# Altium footprint library PcbLibICPOWER.PcbLib: 19 footprints (part 1 of 2)
Each footprint in its own frame and in the unit in brackets; x right, y up, seen from the top. Pads: shape width x height; smd on the part's side, far side on the other; paste and mask are expansions set on the pad; w line width, h text height; cw(c..) or ccw(c..) is an arc to the next point about the centre after c.
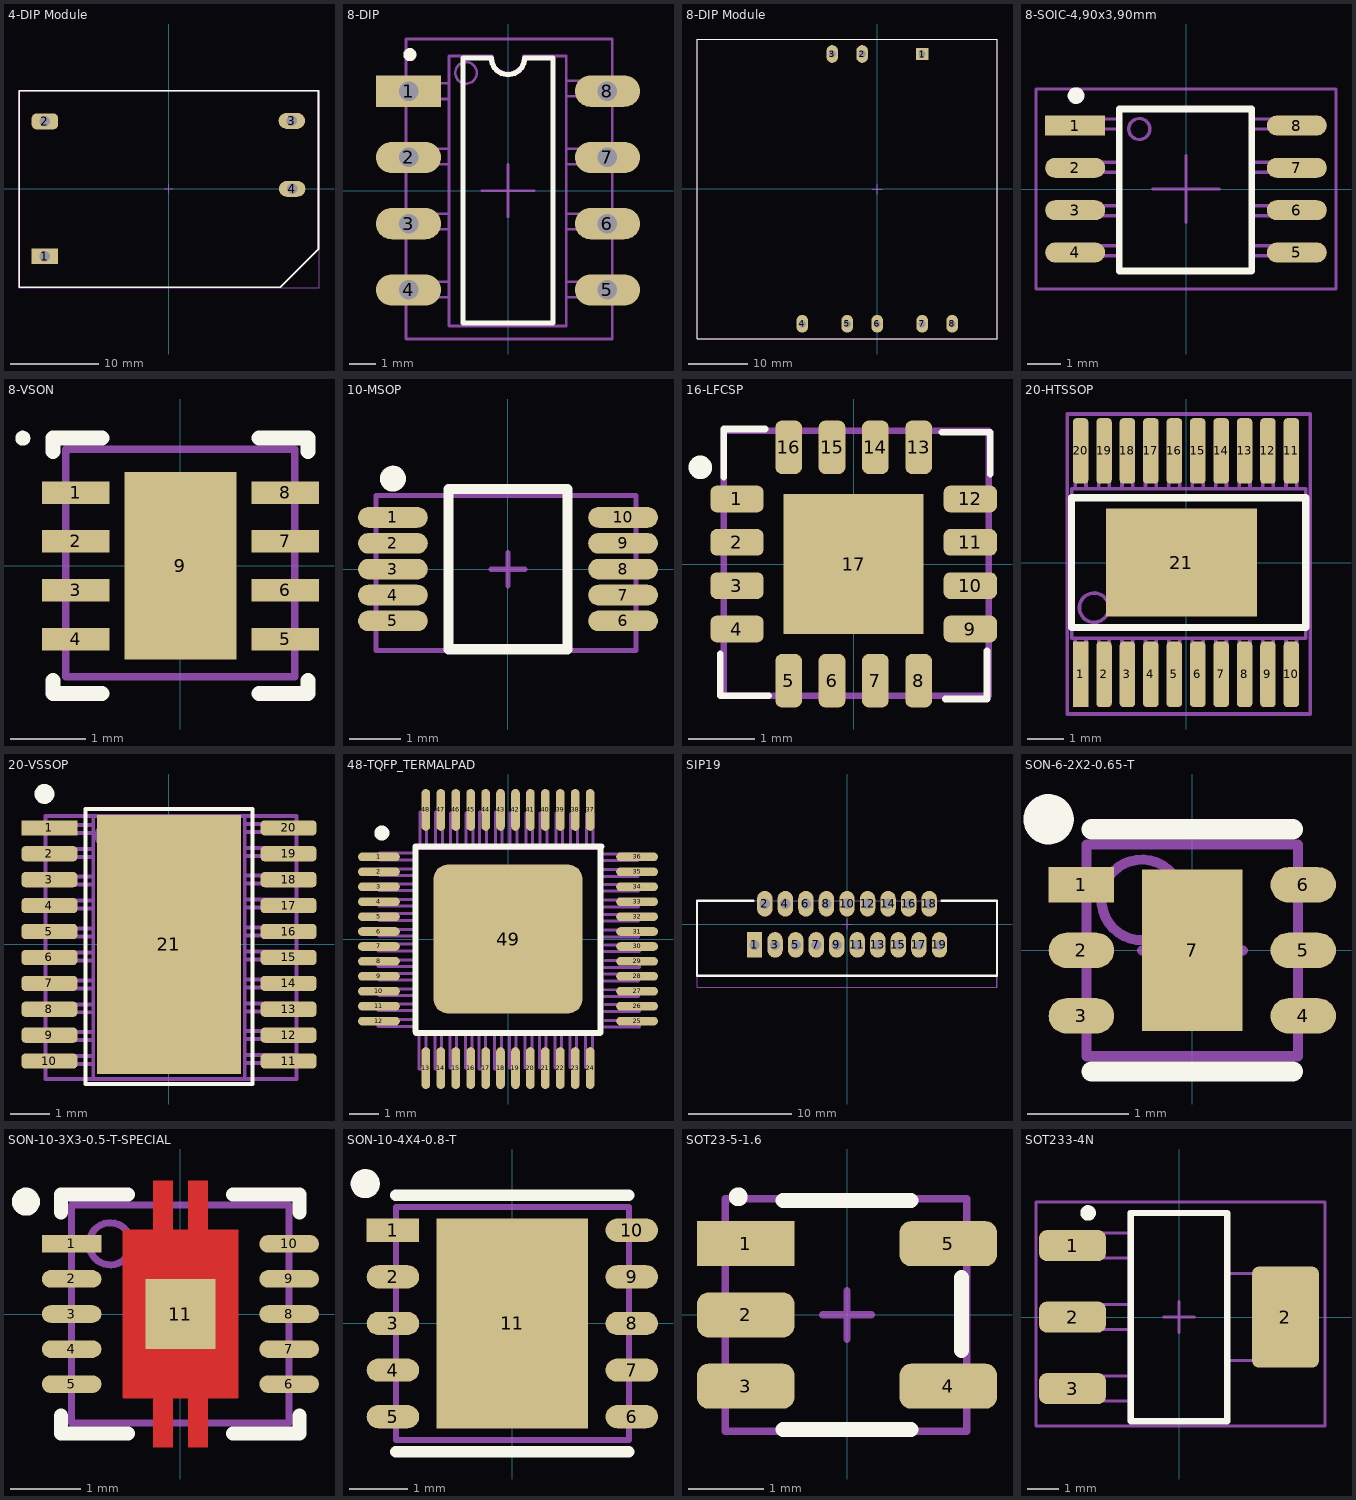
[diagram p0: the footprints below, top view; thin cyan lines are the x and y axes]

## 4-DIP Module [mm] "1.33\" L x 0.87\" W x 0.75\" H (33.7mm x 22.2mm x 19.0mm)"
height 19
pads (4):
  rect 3x1.8 hole 1.2: 1(-13.97,-7.65)
  rrect60% 3x1.8 hole 1.2: 2(-13.97,7.59)
  oval 3x1.8 hole 1.2: 3(13.93,7.65) 4(13.97,-0.03)
Top Overlay:
  lines w0.2: -16.87,-11.15 12.63,-11.15 16.93,-6.85 16.93,11.05 -16.87,11.05 -16.87,-11.15
TopAssy:
  circle w0.1: c13.97,-0.03 r0.5
  circle w0.1: c13.93,7.65 r0.5
  circle w0.1: c-13.97,7.59 r0.5
  circle w0.1: c-13.97,-7.65 r0.5
  lines w0.1: -16.87,-11.15 -16.87,11.05 16.93,11.05 16.93,-6.85 12.63,-11.15 -16.87,-11.15
Inside:
  lines w0.1: -0.5,0 0.5,0 ; 0,-0.5 0,0.5 ; -16.9,-11.2 -16.9,11.1 17,11.1 17,-11.2 -16.9,-11.2
3D body "User Library-RAC01-xxSGB.STEP": height 19.6, standoff -3.2, extent -16.82,-11.13 16.88,11.07

## 8-DIP [mm]
pads (8):
  rect 2.5x1.2 hole 0.75: 1(-3.81,3.81)
  oval 2.5x1.2 hole 0.75: 2(-3.81,1.27) 3(-3.81,-1.27) 4(-3.81,-3.81) 5(3.81,-3.81) 6(3.81,-1.27) 7(3.81,1.27) 8(3.81,3.81)
Top Overlay:
  circle w0.25: c-3.76,5.21 r0.125
  lines w0.2: -1.725,-5.08 1.725,-5.08 1.725,5.08 0.635,5.08 cw(c0,5.08) -0.635,5.08 -1.725,5.08 -1.725,-5.08
TopAssy:
  circle w0.1: c-1.61,4.51 r0.412
  lines w0.1: -2.26,-4.09 -4.71,-4.09 -4.71,-3.49 -2.26,-3.49 ; -2.26,-1.49 -4.71,-1.49 -4.71,-0.89 -2.26,-0.89 ; -2.26,1.01 -4.71,1.01 -4.71,1.61 -2.26,1.61 ; -2.26,3.51 -4.71,3.51 -4.71,4.11 -2.26,4.11 ; -2.135,5.16 -2.26,5.16 ; 2.24,-4.09 4.69,-4.09 4.69,-3.49 2.24,-3.49 ; 2.24,-1.49 4.69,-1.49 4.69,-0.89 2.24,-0.89 ; 2.24,1.01 4.69,1.01 4.69,1.61 2.24,1.61 ; 2.24,3.61 4.69,3.61 4.69,4.21 2.24,4.21 ; -2.26,5.16 -2.26,-5.19 2.24,-5.19 2.24,5.16 0.59,5.16 cw(c-0.01,5.11) -0.61,5.16 -2.26,5.16
Inside:
  lines w0.1: -1,0 1,0 ; 0,-1 0,1 ; -3.91,-5.69 -3.91,5.81 3.99,5.81 3.99,-5.69 -3.91,-5.69
3D body "CircuitWorks-DIP8.step": height 4.69, standoff -2.17, extent -3.885,-5.705 3.989,5.725

## 8-DIP Module [mm] "2.00\" L x 2.00\" W x 0.43\" H (50.8mm x 50.8mm x 11.0mm)-SKA60Series"
pads (8):
  rect 2.1x2.1 hole 1.2: 1(7.62,22.85)
  oval 2x3 hole 1.2: 2(-2.54,22.85) 3(-7.62,22.85) 4(-12.7,-22.85) 5(-5.08,-22.85) 6(0,-22.85) 7(7.62,-22.85) 8(12.7,-22.85)
Top Overlay:
  lines w0.1: -30.53,-25.35 20.295,-25.35 20.295,25.35 -30.48,25.35 -30.53,25.35 -30.53,-25.35
TopAssy:
  lines w0.1: -30.505,-25.375 20.295,-25.375 20.295,25.325 -30.505,25.325 -30.505,-25.375
Inside:
  lines w0.1: -0.875,-0.025 0.875,-0.025 ; 0,-0.875 0,0.75
3D body "SKA60 .STEP": height 12, standoff -4.8, extent -30.48,-25.4 20.32,25.4

## 8-SOIC-4,90x3,90mm [mm] "SOIC, 8-Leads, Body 4,90x3,90mm, Pitch 1,27mm, IPC Medium Density"
height 2.65
pads (8):
  rect 1.8x0.6 smd: 1(-3.325,1.905)
  oval 1.8x0.6 smd: 2(-3.325,0.635) 3(-3.325,-0.635) 4(-3.325,-1.905) 5(3.325,-1.905) 6(3.325,-0.635) 7(3.325,0.635) 8(3.325,1.905)
Top Overlay:
  circle w0.25: c-3.3,2.8 r0.125
  lines w0.2: -2,-2.45 -2,2.4 1.975,2.4 1.975,-2.45 1.965,-2.46 -2,-2.46
TopAssy:
  circle w0.1: c-1.4,1.8 r0.316
  lines w0.1: -2,-2 -3,-2 -3,-1.7 -2,-1.7 ; -2,-0.8 -3,-0.8 -3,-0.5 -2,-0.5 ; -2,0.5 -3,0.5 -3,0.8 -2,0.8 ; -2,1.8 -3,1.8 -3,2.1 -2,2.1 ; 2,-2 3,-2 3,-1.7 2,-1.7 ; 2,-0.8 3,-0.8 3,-0.5 2,-0.5 ; 2,0.5 3,0.5 3,0.8 2,0.8 ; 2,1.8 3,1.8 3,2.1 2,2.1 ; -2,-2.4 -1.9,-2.5 2,-2.5 2,2.4 -2,2.4 -2,-2.4
Inside:
  lines w0.1: -1,0 1,0 ; 0,-1 0,1 ; -4.5,-3 4.5,-3 4.5,3 -4.5,3 -4.5,-3
3D body "User Library-SOIC-8-1.step": height 1.75, standoff 0, extent -3,-2.45 3,2.45

## 8-VSON [mm] "3.1mmx3.1mmx1mm"
height 1
pads (9):
  rect 0.9x0.3 smd mask+0.05: 1(-1.395,0.975) 2(-1.395,0.325) 3(-1.395,-0.325) 4(-1.395,-0.975) 5(1.395,-0.975) 6(1.395,-0.325) 7(1.395,0.325) 8(1.395,0.975)
  rect 1.49x2.5 smd mask+0.05: 9(0,0)
Top Overlay:
  circle w0.1: c-2.1,1.7 r0.05
  lines w0.2: -1.7,-1.525 -1.7,-1.7 -1.045,-1.7 ; -1.7,1.525 -1.7,1.7 -1.045,1.7 ; 1.045,-1.7 1.7,-1.7 1.7,-1.525 ; 1.045,1.7 1.7,1.7 1.7,1.525
Top Solder:
  rectangle: -0.8,-1.225 0.8,-1.2
TopAssy:
  lines w0.1: -1.525,-1.475 -1.525,1.55 1.525,1.55 1.525,-1.475 -1.525,-1.475
Inside:
  lines w0.1: -0.325,0 0.325,0 ; 0,-0.325 0,0.325
3D body "User Library-DRB(S-PVSON-N8).STEP": height 1.05, standoff 0, extent -1.52,-1.5 1.52,1.54

## 10-MSOP [mm] "3.1mmx3.1mmx1.1mm"
height 1.1
pads (10):
  oval 1.35x0.4 smd mask+0.05: 1(-2.225,1) 2(-2.225,0.5) 3(-2.225,0) 4(-2.225,-0.5) 5(-2.225,-1) 6(2.225,-1) 7(2.225,-0.5) 8(2.225,0) 9(2.225,0.5) 10(2.225,1)
Top Overlay:
  circle w0.25: c-2.225,1.75 r0.125
  lines w0.2: -1.15,-1.55 1.15,-1.55 1.15,1.55 -1.15,1.55 -1.15,-1.55
TopAssy:
  lines w0.1: -2.55,-1.575 2.475,-1.575 2.475,1.425 -2.55,1.425 -2.55,-1.575
Inside:
  lines w0.1: -0.325,0 0.325,0 ; 0,-0.325 0,0.325
3D body "User Library-MSOP-10-1.step": height 1.05, standoff 0, extent -2.554,-1.575 2.473,1.425

## 16-LFCSP [mm] "4mmx4mmx0.8mm"
height 0.8
pads (17):
  rrect50% 0.8x0.4 smd mask+0.05: 1(-1.75,0.975) 2(-1.75,0.325) 3(-1.75,-0.325) 4(-1.75,-0.975) 9(1.75,-0.975) 10(1.75,-0.325) 11(1.75,0.325) 12(1.75,0.975)
  rrect50% 0.4x0.8 smd mask+0.05: 5(-0.975,-1.75) 6(-0.325,-1.75) 7(0.325,-1.75) 8(0.975,-1.75) 13(0.975,1.75) 14(0.325,1.75) 15(-0.325,1.75) 16(-0.975,1.75)
  rect 2.1x2.1 smd: 17(0,0)
Top Overlay:
  circle w0.254: c-2.3,1.45 r0.05
  lines w0.1: -2,-1.35 -2,-1.975 -1.275,-1.975 ; -1.95,1.3 -1.95,2.025 -1.325,2.025 ; 1.325,1.975 2.05,1.975 2.05,1.35 ; 1.375,-2.025 2,-2.025 2,-1.3
TopAssy:
  lines w0.1: -1.95,-1.975 2.025,-1.975 2.025,2 -1.95,2 -1.95,-1.975
Inside:
  lines w0.1: -0.325,0 0.325,0 ; 0,-0.325 0,0.325
3D body "User Library-LFCSP-16-1.STEP": height 1, standoff 0, extent -2,-1.975 2,2.025

## 20-HTSSOP [mm] "20-PowerTSSOP (0.173\", 4.40mm Width)"
pads (21):
  rect 0.43x1.82 smd: 1(-2.925,-3.1)
  rrect50% 0.43x1.82 smd: 2(-2.275,-3.1) 3(-1.625,-3.1) 4(-0.975,-3.1) 5(-0.325,-3.1) 6(0.325,-3.1) 7(0.975,-3.1) 8(1.625,-3.1) 9(2.275,-3.1) 10(2.925,-3.1) 11(2.925,3.1) 12(2.275,3.1) 13(1.625,3.1) 14(0.975,3.1) 15(0.325,3.1) 16(-0.325,3.1) 17(-0.975,3.1) 18(-1.625,3.1) 19(-2.275,3.1) 20(-2.925,3.1)
  rect 4.2x3 smd: 21(-0.125,0)
Top Overlay:
  lines w0.2: -3.175,-1.8 -3.175,1.8 3.325,1.8 3.325,-1.8 -3.175,-1.8
TopAssy:
  circle w0.1: c-2.55,-1.25 r0.407
  lines w0.1: -3.075,-2.15 -3.075,-3.5 -2.775,-3.5 -2.775,-2.15 ; -3.075,2.075 -3.075,3.425 -2.775,3.425 -2.775,2.075 ; -2.425,-2.125 -2.425,-3.475 -2.125,-3.475 -2.125,-2.125 ; -2.425,2.05 -2.425,3.4 -2.125,3.4 -2.125,2.05 ; -1.775,-2.125 -1.775,-3.475 -1.475,-3.475 -1.475,-2.125 ; -1.775,2.05 -1.775,3.4 -1.475,3.4 -1.475,2.05 ; -1.125,-2.125 -1.125,-3.475 -0.825,-3.475 -0.825,-2.125 ; -1.125,2.05 -1.125,3.4 -0.825,3.4 -0.825,2.05 ; -0.475,-2.15 -0.475,-3.5 -0.175,-3.5 -0.175,-2.15 ; -0.475,2.075 -0.475,3.425 -0.175,3.425 -0.175,2.075 ; 0.175,-2.125 0.175,-3.475 0.475,-3.475 0.475,-2.125 ; 0.175,2.05 0.175,3.4 0.475,3.4 0.475,2.05 ; 0.825,-2.125 0.825,-3.475 1.125,-3.475 1.125,-2.125 ; 0.825,2.05 0.825,3.4 1.125,3.4 1.125,2.05 ; 1.475,-2.125 1.475,-3.475 1.775,-3.475 1.775,-2.125 ; 1.475,2.05 1.475,3.4 1.775,3.4 1.775,2.05 ; 2.125,-2.125 2.125,-3.475 2.425,-3.475 2.425,-2.125 ; 2.125,2.05 2.125,3.4 2.425,3.4 2.425,2.05 ; 2.775,-2.125 2.775,-3.475 3.075,-3.475 3.075,-2.125 ; 2.775,2.05 2.775,3.4 3.075,3.4 3.075,2.05 ; -3.175,-2.1 3.325,-2.1 3.325,2.05 -3.175,2.05 -3.175,-2.1
Inside:
  lines w0.1: -0.5,0 0.5,0 ; 0,-0.5 0,0.5 ; -3.3,-4.2 3.45,-4.2 3.45,4.125 -3.3,4.125 -3.3,-4.2
3D body "User Library-HTSSOP20.step": height 0.95, standoff -0.06, extent -3.25,-3.2 3.25,3.214

## 20-VSSOP [mm] "20-VSSOP (0.173\", 4.40mm Width) Exposed Pad"
pads (21):
  rect 1.4x0.38 smd: 1(-3,2.925)
  rrect50% 1.4x0.38 smd: 2(-3,2.275) 3(-3,1.625) 4(-3,0.975) 5(-3,0.325) 6(-3,-0.325) 7(-3,-0.975) 8(-3,-1.625) 9(-3,-2.275) 10(-3,-2.925) 11(3,-2.925) 12(3,-2.275) 13(3,-1.625) 14(3,-0.975) 15(3,-0.325) 16(3,0.325) 17(3,0.975) 18(3,1.625) 19(3,2.275) 20(3,2.925)
  rect 3.6x6.5 smd: 21(0,0)
Top Overlay:
  circle w0.25: c-3.125,3.775 r0.125
  lines w0.1: -2.1,-3.5 2.1,-3.5 2.1,3.4 -2.1,3.4 -2.1,-3.5
TopAssy:
  circle w0.1: c-1.5,2.725 r0.316
  lines w0.1: -1.9,-3 -3.2,-3 -3.2,-2.8 -1.9,-2.8 ; -1.9,-2.4 -3.2,-2.4 -3.2,-2.2 -1.9,-2.2 ; -1.9,-1.7 -3.2,-1.7 -3.2,-1.5 -1.9,-1.5 ; -1.9,-1.1 -3.2,-1.1 -3.2,-0.9 -1.9,-0.9 ; -1.9,-0.4 -3.2,-0.4 -3.2,-0.2 -1.9,-0.2 ; -1.9,0.2 -3.2,0.2 -3.2,0.4 -1.9,0.4 ; -1.9,0.9 -3.2,0.9 -3.2,1.1 -1.9,1.1 ; -1.9,1.5 -3.2,1.5 -3.2,1.7 -1.9,1.7 ; -1.9,2.2 -3.2,2.2 -3.2,2.4 -1.9,2.4 ; -1.9,2.8 -3.2,2.8 -3.2,3 -1.9,3 ; 1.9,-2.975 3.2,-2.975 3.2,-2.775 1.9,-2.775 ; 1.9,-2.375 3.2,-2.375 3.2,-2.175 1.9,-2.175 ; 1.9,-1.675 3.2,-1.675 3.2,-1.475 1.9,-1.475 ; 1.9,-1.075 3.2,-1.075 3.2,-0.875 1.9,-0.875 ; 1.9,-0.375 3.2,-0.375 3.2,-0.175 1.9,-0.175 ; 1.9,0.225 3.2,0.225 3.2,0.425 1.9,0.425 ; 1.9,0.925 3.2,0.925 3.2,1.125 1.9,1.125 ; 1.9,1.525 3.2,1.525 3.2,1.725 1.9,1.725 ; 1.9,2.225 3.2,2.225 3.2,2.425 1.9,2.425 ; 1.9,2.825 3.2,2.825 3.2,3.025 1.9,3.025 ; -1.9,-3.375 -1.9,3.225 1.9,3.225 1.9,-3.375 -1.9,-3.375
Inside:
  lines w0.1: -1,0 1,0 ; 0,-1 0,1 ; -3.1,-3.375 -3.1,3.225 3.2,3.225 3.2,-3.375 -3.1,-3.375
3D body "User Library-TSSOP20_TP.STEP": height 1.1, standoff -0.09, extent -3.1,-3.35 3.18,3.15

## 48-TQFP_TERMALPAD [mm]
height 1.2
pads (49):
  oval 1.4x0.29 smd: 1(-4.325,2.75) 2(-4.325,2.25) 3(-4.325,1.75) 4(-4.325,1.25) 5(-4.325,0.75) 6(-4.325,0.25) 7(-4.325,-0.25) 8(-4.325,-0.75) 9(-4.325,-1.25) 10(-4.325,-1.75) 11(-4.325,-2.25) 12(-4.325,-2.75) 25(4.325,-2.75) 26(4.325,-2.25) 27(4.325,-1.75) 28(4.325,-1.25) 29(4.325,-0.75) 30(4.325,-0.25) 31(4.325,0.25) 32(4.325,0.75) 33(4.325,1.25) 34(4.325,1.75) 35(4.325,2.25) 36(4.325,2.75)
  oval 0.29x1.4 smd: 13(-2.75,-4.325) 14(-2.25,-4.325) 15(-1.75,-4.325) 16(-1.25,-4.325) 17(-0.75,-4.325) 18(-0.25,-4.325) 19(0.25,-4.325) 20(0.75,-4.325) 21(1.25,-4.325) 22(1.75,-4.325) 23(2.25,-4.325) 24(2.75,-4.325) 37(2.75,4.325) 38(2.25,4.325) 39(1.75,4.325) 40(1.25,4.325) 41(0.75,4.325) 42(0.25,4.325) 43(-0.25,4.325) 44(-0.75,4.325) 45(-1.25,4.325) 46(-1.75,4.325) 47(-2.25,4.325) 48(-2.75,4.325)
  rrect20% 5x5 smd: 49(0,0)
Top Overlay:
  circle w0.25: c-4.225,3.55 r0.125
  lines w0.2: -3.1,-3.1 -3.1,3.1 ; -3.075,-3.15 3.075,-3.15 3.1,-3.125 3.1,3.1 ; -3.075,3.1 3.125,3.1
TopAssy:
  lines w0.1: -3.2,-2.7 -4.35,-2.7 -4.35,-2.925 -3.175,-2.925 ; -3.2,-2.175 -4.35,-2.175 -4.35,-2.4 -3.175,-2.4 ; -3.2,-0.7 -4.35,-0.7 -4.35,-0.925 -3.175,-0.925 ; -3.2,-0.175 -4.35,-0.175 -4.35,-0.4 -3.175,-0.4 ; -3.175,-1.675 -4.325,-1.675 -4.325,-1.9 -3.15,-1.9 ; -3.175,-1.15 -4.325,-1.15 -4.325,-1.375 -3.15,-1.375 ; -3.175,0.325 -4.325,0.325 -4.325,0.1 -3.15,0.1 ; -3.175,0.85 -4.325,0.85 -4.325,0.625 -3.15,0.625 ; -3.175,1.325 -4.325,1.325 -4.325,1.1 -3.15,1.1 ; -3.175,1.85 -4.325,1.85 -4.325,1.625 -3.15,1.625 ; -3.15,2.35 -4.3,2.35 -4.3,2.125 -3.125,2.125 ; -3.15,2.875 -4.3,2.875 -4.3,2.65 -3.125,2.65 ; -2.975,-3.175 -2.975,-4.35 -2.75,-4.35 -2.75,-3.2 ; -2.95,3.075 -2.95,4.25 -2.725,4.25 -2.725,3.1 ; -2.45,-3.175 -2.45,-4.35 -2.225,-4.35 -2.225,-3.2 ; -2.425,3.075 -2.425,4.25 -2.2,4.25 -2.2,3.1 ; -1.95,-3.15 -1.95,-4.325 -1.725,-4.325 -1.725,-3.175 ; -1.925,3.05 -1.925,4.225 -1.7,4.225 -1.7,3.075 ; -1.425,-3.15 -1.425,-4.325 -1.2,-4.325 -1.2,-3.175 ; -1.4,3.05 -1.4,4.225 -1.175,4.225 -1.175,3.075 ; -0.975,-3.175 -0.975,-4.35 -0.75,-4.35 -0.75,-3.2 ; -0.95,3.075 -0.95,4.25 -0.725,4.25 -0.725,3.1 ; -0.45,-3.175 -0.45,-4.35 -0.225,-4.35 -0.225,-3.2 ; -0.425,3.075 -0.425,4.25 -0.2,4.25 -0.2,3.1 ; 0.05,-3.15 0.05,-4.325 0.275,-4.325 0.275,-3.175 ; 0.075,3.05 0.075,4.225 0.3,4.225 0.3,3.075 ; 0.575,-3.15 0.575,-4.325 0.8,-4.325 0.8,-3.175 ; 0.6,3.05 0.6,4.225 0.825,4.225 0.825,3.075 ; 1.05,-3.15 1.05,-4.325 1.275,-4.325 1.275,-3.175 ; 1.075,3.05 1.075,4.225 1.3,4.225 1.3,3.075 ; 1.575,-3.15 1.575,-4.325 1.8,-4.325 1.8,-3.175 ; 1.6,3.05 1.6,4.225 1.825,4.225 1.825,3.075 ; 2.075,-3.125 2.075,-4.3 2.3,-4.3 2.3,-3.15 ; 2.1,3.025 2.1,4.2 2.325,4.2 2.325,3.05 ; 2.6,-3.125 2.6,-4.3 2.825,-4.3 2.825,-3.15 ; 2.625,3.025 2.625,4.2 2.85,4.2 2.85,3.05 ; 3.175,2.1 4.35,2.1 4.35,2.325 3.2,2.325 ; 3.175,2.625 4.35,2.625 4.35,2.85 3.2,2.85 ; 3.2,-1.925 4.375,-1.925 4.375,-1.7 3.225,-1.7 ; 3.2,-1.4 4.375,-1.4 4.375,-1.175 3.225,-1.175 ; 3.2,0.075 4.375,0.075 4.375,0.3 3.225,0.3 ; 3.2,0.6 4.375,0.6 4.375,0.825 3.225,0.825 ; 3.2,1.075 4.375,1.075 4.375,1.3 3.225,1.3 ; 3.2,1.6 4.375,1.6 4.375,1.825 3.225,1.825 ; 3.225,-2.95 4.4,-2.95 4.4,-2.725 3.25,-2.725 ; 3.225,-2.425 4.4,-2.425 4.4,-2.2 3.25,-2.2 ; 3.225,-0.95 4.4,-0.95 4.4,-0.725 3.25,-0.725 ; 3.225,-0.425 4.4,-0.425 4.4,-0.2 3.25,-0.2 ; -3.125,-3.15 3.1,-3.15 3.1,3.025 -3.075,3.025 -3.125,3.025 -3.125,-3.15
Inside:
  lines w0.1: -0.388,0 0.388,0 ; 0,-0.375 0,0.4
3D body "User Library-TQFP48.step": height 1.1, standoff 0, extent -4.509,-4.509 4.509,4.509

## SIP19 [mm] "29.2x14.4"
pads (19):
  rect 1.5x2.5 hole 1: 1(-9,-2)
  oval 1.5x2.5 hole 1: 2(-8,2) 3(-7,-2) 4(-6,2) 5(-5,-2) 6(-4,2) 7(-3,-2) 8(-2,2) 9(-1,-2) 10(0,2) 11(1,-2) 12(2,2) 13(3,-2) 14(4,2) 15(5,-2) 16(6,2) 17(7,-2) 18(8,2) 19(9,-2)
Top Overlay:
  lines w0.2: -9.1,2.3 -14.6,2.3 -14.6,-5 14.6,-5 14.6,2.3 9.2,2.3
TopAssy:
  lines w0.1: -9.3,2.3 14.6,2.3 14.6,-6.1 -14.6,-6.1 -14.6,2.3 -9.1,2.3
Inside:
  lines w0.1: -0.5,0 0.5,0 ; 0,-0.5 0,0.5 ; -14.6,-6.1 14.6,-6.1 14.6,2.3 -9.1,2.3 -14.6,2.3 -14.6,-6.1
3D body "User Library-SIP19.step": height 18.2, standoff -3.91, extent -14.6,-6.101 14.6,2.3

## SON-6-2X2-0.65-T [mm] "SON, 6-Leads, Body 2,00x2,00mm, Pitch 0,65mm, Thermal Pad 1,60x0,89mm, IPC Medium Density"
height 0.8
pads (7):
  rect 0.65x0.35 smd: 1(-1.1,0.65)
  oval 0.65x0.35 smd: 2(-1.1,0) 3(-1.1,-0.65) 4(1.1,-0.65) 5(1.1,0) 6(1.1,0.65)
  rect 1x1.6 smd: 7(0,0)
Top Overlay:
  circle w0.25: c-1.425,1.3 r0.125
  lines w0.2: -1,-1.2 1,-1.2 ; -1,1.2 1,1.2
TopAssy:
  circle w0.1: c-0.5,0.5 r0.4
  lines w0.1: -1.05,-1.05 1.05,-1.05 1.05,1.05 -1.05,1.05 -1.05,-1.05
Size:
  lines w0.05: -1.05,-1.05 1.05,-1.05 1.05,1.05 -1.05,1.05 -1.05,-1.05
  lines w0.1: -0.5,0 0.5,0 ; 0,-0.5 0,0.5
3D body "SON65P200X80_HS-7N.step": height 0.8, standoff 0, extent -1.1,-1.05 1.1,1.05

## SON-10-3X3-0.5-T-SPECIAL [mm]
height 0.75
pads (11):
  rect 0.85x0.25 smd: 1(-1.55,1)
  oval 0.85x0.25 smd: 2(-1.55,0.5) 3(-1.55,0) 4(-1.55,-0.5) 5(-1.55,-1) 6(1.55,-1) 7(1.55,-0.5) 8(1.55,0) 9(1.55,0.5) 10(1.55,1)
  rect 1x1 smd: 11(0,0)
Top Layer:
  region: -0.825,1.2 -0.39,1.2 -0.39,1.9 -0.11,1.9 -0.11,1.2 0.11,1.2 0.11,1.9 0.39,1.9 0.39,1.2 0.825,1.2 0.825,-1.2 0.39,-1.2 0.39,-1.9 0.11,-1.9 0.11,-1.2 -0.11,-1.2 -0.11,-1.9 -0.39,-1.9 -0.39,-1.2 -0.825,-1.2
Top Overlay:
  circle w0.2: c-2.2,1.6 r0.1
  lines w0.2: -1.7,-1.45 -1.7,-1.7 -0.75,-1.7 ; -1.7,1.45 -1.7,1.7 -0.75,1.7 ; 0.75,-1.7 1.7,-1.7 1.7,-1.45 ; 0.75,1.7 1.7,1.7 1.7,1.45
TopAssy:
  circle w0.1: c-1,1 r0.3
  lines w0.1: -1.55,-1.55 -1.55,1.55 1.55,1.55 1.55,-1.55 -1.55,-1.55
Inside:
  lines w0.1: -0.5,0 0.5,0 ; 0,-0.5 0,0.5 ; -1.55,-1.55 -1.55,0.825 -1.55,1.55 1.55,1.55 1.55,-1.55 -1.55,-1.55
3D body "RT6150B(1).STEP": height 0.85, standoff 0, extent -1.55,-1.5 1.55,1.5

## SON-10-4X4-0.8-T [mm]
height 0.8
pads (11):
  rect 0.9x0.4 smd: 1(-2.05,1.6)
  oval 0.9x0.4 smd: 2(-2.05,0.8) 3(-2.05,0) 4(-2.05,-0.8) 5(-2.05,-1.6) 6(2.05,-1.6) 7(2.05,-0.8) 8(2.05,0) 9(2.05,0.8) 10(2.05,1.6)
  rect 2.6x3.6 smd: 11(0,0)
Top Overlay:
  circle w0.25: c-2.525,2.4 r0.125
  lines w0.2: -2,-2.2 2,-2.2 ; -2,2.2 2,2.2
TopAssy:
  circle w0.1: c-1,1.5 r0.2
  lines w0.1: -2,-2 2,-2 2,2 -2,2 -2,-2
Inside:
  lines w0.1: -0.325,0 0.325,0 ; 0,-0.325 0,0.325
Size:
  lines w0.1: -0.5,0 0.5,0 ; 0,-0.5 0,0.5
3D body "SON80P400X80_HS-11N.step": height 0.8, standoff 0, extent -2.15,-2.05 2.15,2.05

## SOT23-5-1.6 [mm]
pads (5):
  rect 1.3x0.6 smd: 1(-1.35,0.95)
  rrect50% 1.3x0.6 smd: 2(-1.35,0) 3(-1.35,-0.95) 4(1.35,-0.95) 5(1.35,0.95)
Top Overlay:
  circle w0.15: c-1.45,1.575 r0.05
  lines w0.2: -0.85,-1.525 0.85,-1.525 ; -0.85,1.525 0.85,1.525 ; 1.525,-0.475 1.525,0.5
TopAssy:
  lines w0.1: -1.625,-1.55 1.6,-1.55 1.6,1.55 -1.625,1.55 -1.625,-1.55
Inside:
  lines w0.1: -0.325,0 0.325,0 ; 0,-0.325 0,0.325
3D body "User Library-SOT23-5-3.STEP": height 1.45, standoff 0.01, extent -1.6,-1.55 1.6,1.55

## SOT233-4N [mm] "SOT223, 4-Leads, Body 6,50x7,00mm (avg), Pitch 2,30mm, IPC Medium Density"
height 1.8
pads (4):
  rrect50% 2.15x1 smd: 1(-3.425,2.3) 2(-3.425,0) 3(-3.425,-2.3)
  rrect20% 2.15x3.25 smd: 2(3.425,0)
Top Overlay:
  circle w0.25: c-2.925,3.35 r0.125
  lines w0.2: -1.55,-3.35 1.55,-3.35 1.55,3.35 -1.55,3.35 -1.55,-3.35
TopAssy:
  lines w0.1: -1.6,-2.7 -3.7,-2.7 -3.7,-1.9 -1.6,-1.9 ; -1.6,-0.4 -3.7,-0.4 -3.7,0.4 -1.6,0.4 ; -1.6,1.9 -3.7,1.9 -3.7,2.7 -1.6,2.7 ; 1.5,-1.4 3.6,-1.4 3.6,1.4 1.5,1.4 ; -1.6,-3.3 -1.6,3.4 1.5,3.4 1.5,-3.3 -1.6,-3.3
Inside:
  lines w0.1: -0.5,0 0.5,0 ; 0,-0.5 0,0.5 ; -4.6,-3.5 -4.6,3.7 4.7,3.7 4.7,-3.5 -4.6,-3.5
3D body "User Library-SOT233.step": height 1.65, standoff -0.05, extent -3.7,-3.35 3.6,3.35